# Altium schematic symbol library INA220BQDGSRQ1.SchLib: 2 symbols
Pins are listed as number, name and electrical type; pins without a type are passive.

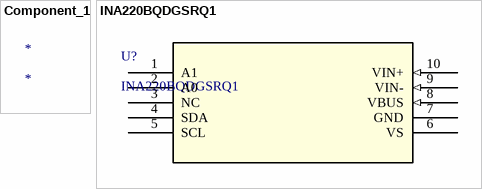
[diagram p0: symbols Component_1 to INA220BQDGSRQ1]

## Component_1
designator *

## INA220BQDGSRQ1
designator U?
No Description Available; Mfr_Name: Texas Instruments; Copyright: Copyright (C) 2023 Ultra Librarian. All rights reserved.; Manufacturer_Part_Number: INA220BQDGSRQ1; Digi-Key_Part_Number_1: 296-36593-1-ND; Digi-Key_Part_Number_2: 296-36593-2-ND; Digi-Key_Part_Number_3: 296-36593-6-ND; Digi-Key_Part_Number_4: 2156-INA220BQDGSRQ1-ND; RefDes: RefDes; Type: DEV
footprint DGS10
pins: 1 A1, 2 A0, 3 NC, 4 SDA, 5 SCL, 6 VS (power), 7 GND (power), 8 VBUS (in), 9 VIN- (in), 10 VIN+ (in)